# Altium schematic symbol library XC6221A.SchLib: 1 symbol
Pins are listed as number, name and electrical type; pins without a type are passive.

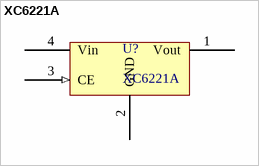
[diagram p0: symbol XC6221A]

## XC6221A
designator U?
pins: 1 Vout (power), 2 GND, 3 CE (in), 4 Vin (power)